# EAGLE library part ICM-20602 (library HenryFC)
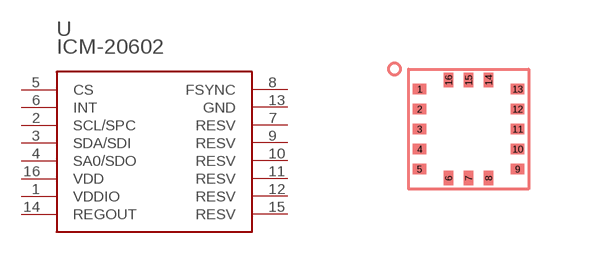
[diagram p2: symbol with the pads of LGA16-3X3; footprint LGA16-3X3]

Designator prefix -

## ICM-20602  [LGA16-3X3]
1  VDDIO
2  SCL/SPC
3  SDA/SDI
4  SA0/SDO
5  CS
6  INT
7  RESV
8  FSYNC
9  RESV
10  RESV
11  RESV
12  RESV
13  GND
14  REGOUT
15  RESV
16  VDD

## Footprint LGA16-3X3 (pad centres in mm)
smd 0.35 x 0.25: 1 -1.225,1; 2 -1.225,0.5; 3 -1.225,0; 4 -1.225,-0.5; 5 -1.225,-1; 9 1.225,-1; 10 1.225,-0.5; 11 1.225,0; 12 1.225,0.5; 13 1.225,1
smd 0.25 x 0.35: 6 -0.5,-1.225; 7 0,-1.225; 8 0.5,-1.225; 14 0.5,1.225; 15 0,1.225; 16 -0.5,1.225